# Altium integrated library LQM2HPN2R2MG0L.IntLib: 1 symbol
Pins are listed as number, name and electrical type; pins without a type are passive.

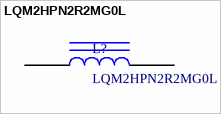
[diagram p0: symbol LQM2HPN2R2MG0L]

## LQM2HPN2R2MG0L
designator L?
Murata 2.2uH inductor
footprint INDC2520X10N (Chip Inductor, 2-Leads, Body 2.50x2.00mm, IPC Medium Density)
pins: 1, 2